# Altium schematic symbol library dongxf_Schlib.SchLib: 300 symbols (part 2 of 6)
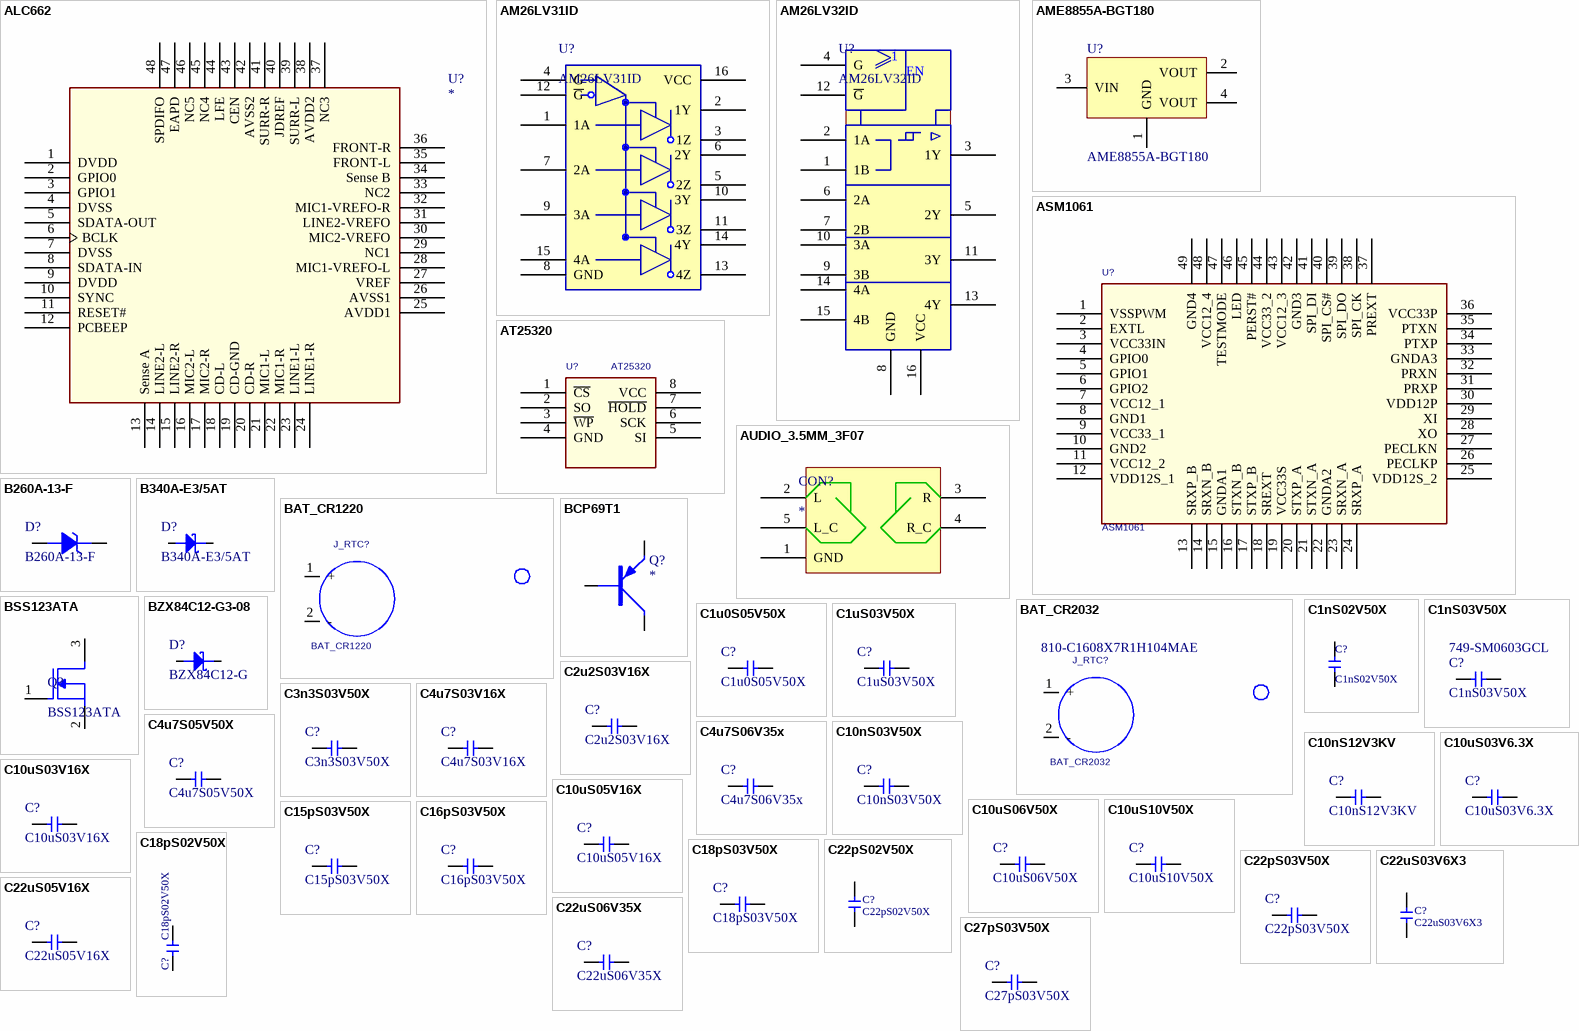
[diagram p15: symbols ALC662 to C27pS03V50X]

## C22uS03V6X3
designator C?
Multilayer Ceramic Capacitors MLCC - SMD/SMT 0603 22uF 6.3volts X5R 20%; Manufacturer: TDK; Manufacturer Part Number: C1608X5R0J226M; Voltage Rating: 6.3 V; Footprint: CAPC1608X90L_ZYN; Tolerance: 20 %; Value: 22uF; Supplier 1: Mouser; Supplier Part Number 1: 810-C1608X5R0J226M; Operating Temperature Range: - 55 C to + 85 C; Temperature Coefficient / Code: X5R; Package / Case: 0603 (1608 metric); Product: General Type MLCCs; RoHS - Mouser: Y; Capacitance: 22 uF; RoHS: RoHS Compliant; Termination Style: SMD/SMT; My_Descript: C22uS03V6X3
footprint C0603 (1608 metric)
pins: 1, 2

## C22uS05V16X
designator C?
Multilayer Ceramic Capacitors MLCC - SMD/SMT; Manufacturer: TDK; Manufacturer Part Number: C2012X6S1C226M125AC; Capacitance: 22 uF; Tolerance: 20 %; Type: Commercial Grade MLCC; Voltage Rating: 16 V; Case Height: 1.25 mm; Case Length: 2 mm; Class: Class 2; Dielectric: X6S; Dissipation Factor DF: 10; Product Status: New Product; Supplier 1: Mouser; RoHS: RoHS Compliant; Category: Multilayer Ceramic Capacitors MLCC - SMD/SMT; Stock 1: 0; Pricing 1: 1=1.03, 10=0.594, 100=0.363, 1000=0.335, 2000=0.208, 10000=0.204, 24000=0.201, 50000=0.193 (AUD); Operating Temperature Range: - 55 C to + 105 C; Package / Case: 0805 (2012 metric); Packaging: Reel; Product: General Type MLCCs; Termination Style: SMD/SMT; Voltage Rating DC: 16 V; Brand: TDK; Case Code - in: 0805; Case Code - mm: 2012; Case Width: 1.25 mm; Temperature Coefficient / Code: X6S; RoHS - Mouser: Y; Minimum Order Quantity: 1; Reeling: True; ComponentLink1URL: http://product.tdk.com/capacitor/mlcc/detailed_information.php?lang=en&ref=us&part_no=C2012X6S1C226M125AC; ComponentLink1Description: http://product.tdk.com/capacitor/mlcc/detailed_information.php?lang=en&ref=us&part_no=C2012X6S1C226M125AC; Supplier Part Number 1: 810-C2012X6S1C226MAC; My_Descript: C22uS05V16X
footprint C0805 (2012metric)
pins: 1, 2

## C22uS06V35X
designator C?
Multilayer Ceramic Capacitors MLCC - SMD/SMT 1206 22uF 35volts X5R 20%; Manufacturer: TDK; Manufacturer Part Number: C3216X5R1V226M160AC; Type: Multilayer Ceramic Chip Capacitor; Voltage Rating: 35 V; Case Length: 3.2 mm; Case Width: 1.6 mm; Supplier 1: Mouser; RoHS: RoHS Compliant; Category: Multilayer Ceramic Capacitors MLCC - SMD/SMT; Stock 1: 170687; Pricing 1: 1=1.66, 10=1.13, 100=0.668, 1000=0.609, 2000=0.431, 10000=0.387, 24000=0.379 (AUD); Capacitance: 22 uF; Operating Temperature Range: - 55 C to + 85 C; Package / Case: 1206 (3216 metric); Packaging: Reel; Product: General Type MLCCs; Series: C; Termination Style: SMD/SMT; Tolerance: 20 %; Brand: TDK; Case Code - in: 1206; Case Code - mm: 3216; Standard Pack Qty: 2000; Temperature Coefficient / Code: X5R; RoHS - Mouser: Y; Minimum Order Quantity: 1; Reeling: True; ComponentLink1URL: http://www.mouser.com/ds/2/400/C3216X5R1V226M160AC-265035.pdf; ComponentLink1Description: http://www.mouser.com/ds/2/400/C3216X5R1V226M160AC-265035.pdf; Supplier Part Number 1: 810-C3216X5R1V226M; My_Descript: C22uS06V35X
footprint C1206(3216 metric)
pins: 1, 2

## C27pS03V50X
designator C?
Multilayer Ceramic Capacitors MLCC - SMD/SMT 0603 27pF 50volts C0G 5%; Manufacturer: TDK; Manufacturer Part Number: C1608C0G1H270J080AA; Type: Multilayer Ceramic Chip Capacitor; Voltage Rating: 50 V; Case Height: 0.8 mm; Case Length: 1.6 mm; Dielectric: C0G (NP0); Temperature Coefficient / Code: +/- 30 PPM / C; Supplier 1: Mouser; RoHS: RoHS Compliant; Category: Multilayer Ceramic Capacitors MLCC - SMD/SMT; Stock 1: 24782; Pricing 1: 1=0.176, 10=0.022, 100=0.014, 1000=0.011, 4000=0.008, 8000=0.007, 48000=0.005, 100000=0.004 (AUD); Capacitance: 27 pF; Operating Temperature Range: - 55 C to + 125 C; Package / Case: 0603 (1608 metric); Packaging: Reel; Product: General Type MLCCs; Series: C; Termination Style: SMD/SMT; Tolerance: 5 %; Voltage Rating DC: 50 V; Brand: TDK; Case Code - in: 0603; Case Code - mm: 1608; Case Width: 0.8 mm; Maximum Operating Temperature: + 125 C; Minimum Operating Temperature: - 55 C; Product Category: Low & Medium Capacitance SMD Ceramic Chip Capacitors; Standard Pack Qty: 4000; RoHS - Mouser: Y; Minimum Order Quantity: 1; Reeling: True; ComponentLink1URL: http://www.mouser.com/ds/2/400/C1608C0G1H270J080AA-264573.pdf; ComponentLink1Description: http://www.mouser.com/ds/2/400/C1608C0G1H270J080AA-264573.pdf; Supplier Part Number 1: 810-C1608C0G1H270J; My_Descript: C27pS03V50X
footprint C0603 (1608 metric)
pins: 1, 2

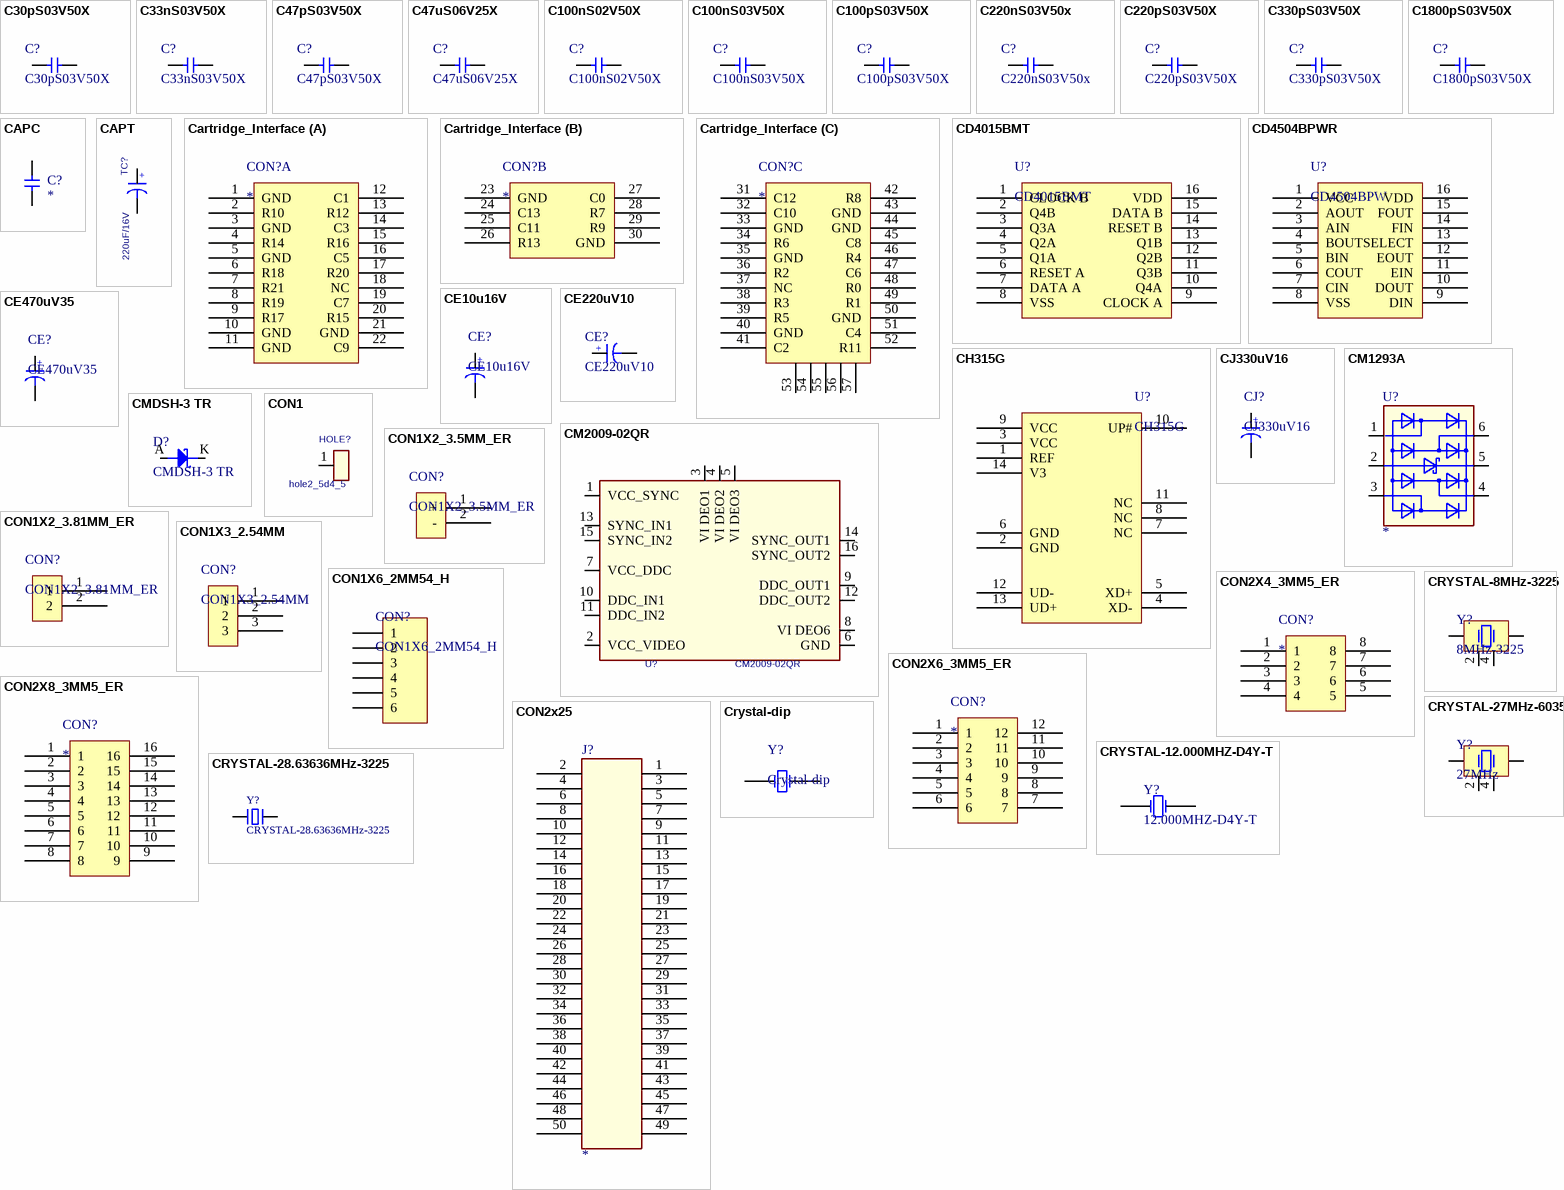
[diagram p3: symbols C30pS03V50X to Crystal-dip]

## C30pS03V50X
designator C?
Multilayer Ceramic Capacitors MLCC - SMD/SMT 0603 330pF 50volts C0G 5%; Manufacturer: AVX; Manufacturer Part Number: 06035A300J4T2A; Description: Multilayer Ceramic Capacitors MLCC - SMD/SMT 50volts 30pF 5% C0G; Capacitance: 30 pF; Type: Automotive MLCCs NP0 Dielectric; Voltage Rating DC: 50 V; Case Height: 0.9 mm; Case Length: 1.6 mm; Case Width: 0.81 mm; Dielectric: C0G (NP0); Temperature Coefficient / Code: +/- 30 PPM / C; My_Descript: C30pS03V50X; Supplier 1: Mouser; RoHS: RoHS Compliant; Category: Multilayer Ceramic Capacitors MLCC - SMD/SMT; Stock 1: 4859; Pricing 1: 1=0.149, 50=0.097, 100=0.086, 500=0.073, 1000=0.068, 2000=0.065, 4000=0.061, 8000=0.051, 24000=0.045 (AUD); Operating Temperature Range: - 55 C to + 125 C; Package / Case: 0603 (1608 metric); Packaging: Reel; Product: Automotive MLCCs; Termination Style: SMD/SMT; Tolerance: 5 %; Brand: AVX; Case Code - in: 0603; Case Code - mm: 1608; Maximum Operating Temperature: + 125 C; Minimum Operating Temperature: - 55 C; Product Category: Automotive Ceramic Chip Capacitors; Standard Pack Qty: 4000; RoHS - Mouser: Y; Minimum Order Quantity: 1; Reeling: True; ComponentLink1URL: http://www.avx.com/docs/Catalogs/ccog.pdf; ComponentLink1Description: http://www.avx.com/docs/Catalogs/ccog.pdf; Supplier Part Number 1: 581-06035A300J4T2A
footprint C0603 (1608 metric)
pins: 1, 2

## C33nS03V50X
designator C?
Multilayer Ceramic Capacitors MLCC - SMD/SMT 33nF 50V X7R 10%; Manufacturer: Yageo; Manufacturer Part Number: CC0603KRX7R9BB333; Capacitance: 0.033 uF; Type: Multilayer Ceramic Chip Capacitor; Case Length: 1.6 mm; Case Width: 0.8 mm; Supplier 1: Mouser; RoHS: RoHS Compliant By Exemption; Category: Multilayer Ceramic Capacitors MLCC - SMD/SMT; Stock 1: 40000; Pricing 1: 4000=0.014, 8000=0.008, 12000=0.007, 24000=0.005 (AUD); Operating Temperature Range: - 55 C to + 125 C; Package / Case: 0603 (1608 metric); Packaging: Reel; Product: General Type MLCCs; Termination Style: SMD/SMT; Tolerance: 10 %; Voltage Rating: 50 V; Brand: Yageo; Case Code - in: 0603; Case Code - mm: 1608; RoHS - Mouser: E; Minimum Order Quantity: 4000; Reeling: True; ComponentLink1URL: http://www.mouser.com/ds/2/447/UPY-GPHC_X7R_6.3V-to-50V_8-12304.pdf; ComponentLink1Description: http://www.mouser.com/ds/2/447/UPY-GPHC_X7R_6.3V-to-50V_8-12304.pdf; Supplier Part Number 1: 603-CC603KRX7R9BB333; My_Descript: C33nS03V50X
footprint C0603 (1608 metric)
pins: 1, 2

## C47pS03V50X
designator C?
Multilayer Ceramic Capacitors MLCC - SMD/SMT 47pF 50V NPO 5%; Manufacturer: Yageo; Manufacturer Part Number: CC0603JRNPO9BN470; Type: Multilayer Ceramic Chip Capacitor; Case Length: 1.6 mm; Case Width: 0.8 mm; Temperature Coefficient / Code: C0G (NP0); Supplier 1: Mouser; RoHS: RoHS Compliant By Exemption; Category: Multilayer Ceramic Capacitors MLCC - SMD/SMT; Stock 1: 52000; Pricing 1: 4000=0.014, 8000=0.012, 12000=0.011, 100000=0.008 (AUD); Capacitance: 47 pF; Operating Temperature Range: - 55 C to + 125 C; Package / Case: 0603 (1608 metric); Packaging: Reel; Product: General Type MLCCs; Termination Style: SMD/SMT; Tolerance: 5 %; Voltage Rating: 50 V; Brand: Yageo; Case Code - in: 0603; Case Code - mm: 1608; Standard Pack Qty: 4000; RoHS - Mouser: E; Minimum Order Quantity: 4000; Reeling: True; ComponentLink1URL: http://www.mouser.com/ds/2/447/UPY-GP_NP0_16V-to-50V_(8)-217813.pdf; ComponentLink1Description: http://www.mouser.com/ds/2/447/UPY-GP_NP0_16V-to-50V_(8)-217813.pdf; My_Descript: C47pS03V50X; Supplier Part Number 1: 603-CC603JRNPO9BN470
footprint C0603 (1608 metric)
pins: 1, 2

## C47uS06V25X
designator C?
Multilayer Ceramic Capacitors MLCC - SMD/SMT 1206 47uF 25volts X5R 20%; Manufacturer: TDK; Manufacturer Part Number: C3216X5R1E476M160AC; Type: Multilayer Ceramic Chip Capacitor; Voltage Rating: 25 V; Case Length: 3.2 mm; Case Width: 1.6 mm; Supplier 1: Mouser; RoHS: RoHS Compliant; Category: Multilayer Ceramic Capacitors MLCC - SMD/SMT; Stock 1: 360366; Pricing 1: 1=1.69, 10=1.22, 100=0.810, 500=0.726, 1000=0.641, 2000=0.471, 10000=0.431, 24000=0.423 (AUD); Capacitance: 47 uF; Operating Temperature Range: - 55 C to + 85 C; Package / Case: 1206 (3216 metric); Packaging: Reel; Product: General Type MLCCs; Series: C; Termination Style: SMD/SMT; Tolerance: 20 %; Brand: TDK; Case Code - in: 1206; Case Code - mm: 3216; Standard Pack Qty: 2000; Temperature Coefficient / Code: X5R; RoHS - Mouser: Y; Minimum Order Quantity: 1; Reeling: True; ComponentLink1URL: http://www.mouser.com/ds/2/400/C3216X5R1E476M160AC-265129.pdf; ComponentLink1Description: http://www.mouser.com/ds/2/400/C3216X5R1E476M160AC-265129.pdf; Supplier Part Number 1: 810-C3216X5R1E476M; My_Descript: C47uS06V25X
footprint C1206(3216 metric)
pins: 1, 2

## C100nS02V50X
designator C?
Multilayer Ceramic Capacitors MLCC - SMD/SMT 0402 0.1uF 50volts X7R 10%; Manufacturer: TDK; Manufacturer Part Number: C1005X7R1H104K050BB; Type: Multilayer Ceramic Chip Capacitor; Voltage Rating: 50 V; Case Height: 0.5 mm; Case Length: 1 mm; Temperature Coefficient / Code: +/- 15 %; Supplier 1: Mouser; RoHS: RoHS Compliant; Category: Multilayer Ceramic Capacitors MLCC - SMD/SMT; Stock 1: 3473049; Pricing 1: 1=0.189, 10=0.078, 100=0.046, 1000=0.038, 2500=0.027, 10000=0.026, 20000=0.024, 50000=0.022, 100000=0.019 (AUD); Capacitance: 0.1 uF; Operating Temperature Range: - 55 C to + 125 C; Package / Case: 0402 (1005 metric); Packaging: Reel; Product: General Type MLCCs; Termination Style: SMD/SMT; Tolerance: 10 %; Voltage Rating DC: 50 V; Brand: TDK; Case Code - in: 0402; Case Code - mm: 1005; Case Width: 0.5 mm; Dielectric: X7R; Maximum Operating Temperature: + 125 C; Minimum Operating Temperature: - 55 C; Standard Pack Qty: 10000; RoHS - Mouser: Y; Minimum Order Quantity: 1; Reeling: True; ComponentLink1URL: http://www.mouser.com/ds/2/400/C1005X7R1H104K050BB-264446.pdf; ComponentLink1Description: http://www.mouser.com/ds/2/400/C1005X7R1H104K050BB-264446.pdf; Supplier Part Number 1: 810-C1005X7R1H104K; My_Descript: C100nS02V50X
footprint C0402 (1005 metric)
pins: 1, 2

## C100nS03V50X
designator C?
Multilayer Ceramic Capacitors MLCC - SMD/SMT; Manufacturer: TDK; Manufacturer Part Number: C1608X7R1H104M080AE; Capacitance: 0.1 uF; Tolerance: 20 %; Type: Soft Termination MLCC; Voltage Rating: 50 V; Case Height: 0.8 mm; Case Length: 1.6 mm; Class: Class 2; Dielectric: X7R; Dissipation Factor DF: 3; Product Status: New Product; Supplier 1: Mouser; RoHS: RoHS Compliant; Category: Multilayer Ceramic Capacitors MLCC - SMD/SMT; Stock 1: 0; Pricing 1: 1=0.311, 10=0.135, 100=0.081, 1000=0.069, 4000=0.051, 8000=0.049, 24000=0.046, 48000=0.043, 100000=0.036 (AUD); Operating Temperature Range: - 55 C to + 125 C; Package / Case: 0603 (1608 metric); Packaging: Reel; Product: General Type MLCCs; Termination Style: SMD/SMT; Voltage Rating DC: 50 V; Brand: TDK; Case Code - in: 0603; Case Code - mm: 1608; Case Width: 0.8 mm; Temperature Coefficient / Code: X7R; RoHS - Mouser: Y; Minimum Order Quantity: 1; Reeling: True; ComponentLink1URL: http://product.tdk.com/capacitor/mlcc/detailed_information.php?lang=en&ref=us&part_no=C1608X7R1H104M080AE; ComponentLink1Description: http://product.tdk.com/capacitor/mlcc/detailed_information.php?lang=en&ref=us&part_no=C1608X7R1H104M080AE; Supplier Part Number 1: 810-C1608X7R1H104MAE; My_Descript: C100nS03V50X
footprint C0603 (1608 metric)
pins: 1, 2

## C100pS03V50X
designator C?
Multilayer Ceramic Capacitors MLCC - SMD/SMT 0603 100pF 50volts C0G 5%; Manufacturer: TDK; Manufacturer Part Number: C1608C0G1H101J080AA; Type: Multilayer Ceramic Chip Capacitor; Voltage Rating: 50 V; Case Height: 0.8 mm; Case Length: 1.6 mm; Temperature Coefficient / Code: C0G (NP0); Supplier 1: Mouser; RoHS: RoHS Compliant; Category: Multilayer Ceramic Capacitors MLCC - SMD/SMT; Stock 1: 134091; Pricing 1: 1=0.149, 10=0.019, 100=0.011, 1000=0.009, 4000=0.008, 8000=0.007, 24000=0.005, 100000=0.004 (AUD); Capacitance: 100 pF; Operating Temperature Range: - 55 C to + 125 C; Package / Case: 0603 (1608 metric); Packaging: Reel; Product: General Type MLCCs; Series: C; Termination Style: SMD/SMT; Tolerance: 5 %; Brand: TDK; Case Code - in: 0603; Case Code - mm: 1608; Case Width: 0.8 mm; Product Category: Low & Medium Capacitance SMD Ceramic Chip Capacitors; Standard Pack Qty: 4000; RoHS - Mouser: Y; Minimum Order Quantity: 1; Reeling: True; ComponentLink1URL: http://www.mouser.com/ds/2/400/C1608C0G1H101J080AA-264505.pdf; ComponentLink1Description: http://www.mouser.com/ds/2/400/C1608C0G1H101J080AA-264505.pdf; Supplier Part Number 1: 810-C1608C0G1H101J; My_Descript: C100pS03V50X
footprint C0603 (1608 metric)
pins: 1, 2

## C220nS03V50x
designator C?
Multilayer Ceramic Capacitors MLCC - SMD/SMT 220000pF 10% 50Volts; Manufacturer: TDK; Manufacturer Part Number: C1608X7R1H224K080AB; Capacitance: 0.22 uF; Type: Multilayer Ceramic Chip Capacitor; Voltage Rating: 50 V; Case Height: 0.8 mm; Case Length: 1.6 mm; Temperature Coefficient / Code: X7R; Voltage Rating DC: 16 V; Class: 2; Dielectric: X7S; Product Status: New Product; Supplier 1: Mouser; RoHS: RoHS Compliant; Category: Multilayer Ceramic Capacitors MLCC - SMD/SMT; Stock 1: 73278; Pricing 1: 1=0.230, 10=0.101, 100=0.061, 1000=0.051, 4000=0.039, 8000=0.036, 24000=0.035, 48000=0.032, 100000=0.027 (AUD); Operating Temperature Range: - 55 C to + 125 C; Package / Case: 0603 (1608 metric); Packaging: Reel; Product: General Type MLCCs; Termination Style: SMD/SMT; Tolerance: 10 %; Brand: TDK; Case Code - in: 0603; Case Code - mm: 1608; Case Width: 0.8 mm; Standard Pack Qty: 4000; RoHS - Mouser: Y; Minimum Order Quantity: 1; Reeling: True; ComponentLink1URL: http://www.mouser.com/ds/2/400/C1608X7R1H224K080AB-264841.pdf; ComponentLink1Description: http://www.mouser.com/ds/2/400/C1608X7R1H224K080AB-264841.pdf; Supplier Part Number 1: 810-C1608X7R1H224K; My_Descript: C220nS03V50x; Supplier 2: Mouser; Stock 2: 0; Pricing 2: 1=0.648, 10=0.378, 100=0.231, 1000=0.213, 2000=0.132, 10000=0.130, 24000=0.128, 50000=0.123, 100000=0.119 (AUD); Series: CGA; ComponentLink2URL: http://product.tdk.com/capacitor/mlcc/en/documents/mlcc_automotive_general_en.pdf; ComponentLink2Description: http://product.tdk.com/capacitor/mlcc/en/documents/mlcc_automotive_general_en.pdf; Supplier Part Number 2: 810-CGA4J1X7S1C106KC
footprint C0603 (1608 metric)
pins: 1, 2

## C220pS03V50X
designator C?
Multilayer Ceramic Capacitors MLCC - SMD/SMT 220pF 50V X7R 5%; Manufacturer: Yageo; Manufacturer Part Number: CC0603JRX7R9BB221; Type: Multilayer Ceramic Chip Capacitor; Case Length: 1.6 mm; Case Width: 0.8 mm; Supplier 1: Mouser; RoHS: RoHS Compliant By Exemption; Category: Multilayer Ceramic Capacitors MLCC - SMD/SMT; Stock 1: 0; Pricing 1: 4000=0.011, 8000=0.009, 24000=0.008, 100000=0.007 (AUD); Capacitance: 220 pF; Operating Temperature Range: - 55 C to + 125 C; Package / Case: 0603 (1608 metric); Packaging: Reel; Product: General Type MLCCs; Termination Style: SMD/SMT; Tolerance: 5 %; Voltage Rating: 50 V; Brand: Yageo; Case Code - in: 0603; Case Code - mm: 1608; RoHS - Mouser: E; Minimum Order Quantity: 4000; Reeling: True; ComponentLink1URL: http://www.mouser.com/ds/2/447/UPY-GPHC_X7R_6.3V-to-50V_9-270870.pdf; ComponentLink1Description: http://www.mouser.com/ds/2/447/UPY-GPHC_X7R_6.3V-to-50V_9-270870.pdf; Supplier Part Number 1: 603-CC603JRX7R9BB221; My_Descript: C220pS03V50X
footprint C0603 (1608 metric)
pins: 1, 2

## C330pS03V50X
designator C?
Multilayer Ceramic Capacitors MLCC - SMD/SMT 0603 330pF 50volts C0G 5%; Manufacturer: TDK; Manufacturer Part Number: C1608C0G1H331J080AA; Type: Multilayer Ceramic Chip Capacitor; Voltage Rating: 50 V; Case Height: 0.8 mm; Case Length: 1.6 mm; Temperature Coefficient / Code: C0G (NP0); Supplier 1: Mouser; RoHS: RoHS Compliant; Category: Multilayer Ceramic Capacitors MLCC - SMD/SMT; Stock 1: 27791; Pricing 1: 1=0.351, 10=0.045, 100=0.026, 1000=0.020, 4000=0.014, 48000=0.012, 100000=0.009 (AUD); Capacitance: 330 pF; Operating Temperature Range: - 55 C to + 125 C; Package / Case: 0603 (1608 metric); Packaging: Reel; Product: General Type MLCCs; Series: C; Termination Style: SMD/SMT; Tolerance: 5 %; Brand: TDK; Case Code - in: 0603; Case Code - mm: 1608; Case Width: 0.8 mm; Product Category: Low & Medium Capacitance SMD Ceramic Chip Capacitors; Standard Pack Qty: 4000; RoHS - Mouser: Y; Minimum Order Quantity: 1; Reeling: True; ComponentLink1URL: http://www.mouser.com/ds/2/400/C1608C0G1H331J080AA-264623.pdf; ComponentLink1Description: http://www.mouser.com/ds/2/400/C1608C0G1H331J080AA-264623.pdf; My_Descript: C330pS03V50X; Supplier Part Number 1: 810-C1608C0G1H331J
footprint C0603 (1608 metric)
pins: 1, 2

## C1800pS03V50X
designator C?
Multilayer Ceramic Capacitors MLCC - SMD/SMT 0603 1800pF 50volts C0G 5%; Manufacturer: TDK; Manufacturer Part Number: C1608C0G1H182J080AA; Type: Multilayer Ceramic Chip Capacitor; Voltage Rating: 50 V; Case Height: 0.8 mm; Case Length: 1.6 mm; Temperature Coefficient / Code: C0G (NP0); Supplier 1: Mouser; RoHS: RoHS Compliant; Category: Multilayer Ceramic Capacitors MLCC - SMD/SMT; Stock 1: 4974; Pricing 1: 1=0.230, 10=0.101, 100=0.061, 1000=0.051, 4000=0.039, 8000=0.036, 24000=0.035, 48000=0.032, 100000=0.027 (AUD); Capacitance: 1800 pF; Operating Temperature Range: - 55 C to + 125 C; Package / Case: 0603 (1608 metric); Packaging: Reel; Product: General Type MLCCs; Series: C; Termination Style: SMD/SMT; Tolerance: 5 %; Brand: TDK; Case Code - in: 0603; Case Code - mm: 1608; Case Width: 0.8 mm; Product Category: Low & Medium Capacitance SMD Ceramic Chip Capacitors; Standard Pack Qty: 4000; RoHS - Mouser: Y; Minimum Order Quantity: 1; Reeling: True; ComponentLink1URL: http://www.mouser.com/ds/2/400/C1608C0G1H182J080AA-264528.pdf; ComponentLink1Description: http://www.mouser.com/ds/2/400/C1608C0G1H182J080AA-264528.pdf; Supplier Part Number 1: 810-C1608C0G1H182J; My_Descript: C1800pS03V50X
footprint C0603 (1608 metric)
pins: 1, 2

## CAPC
designator C?
footprint CAPC1608X90N
pins: 1, 2

## CAPT
designator TC?, comment 220uF/16V
REUSE_ANNOTATE: TRUE
footprint cap7343_tg
pins: 1, 2
text: +

## Cartridge_Interface
designator CON?
My_Descript: Cartridge_Interface
footprint Cartridge_Interface
part A pins: 1 GND, 2 R10, 3 GND, 4 R14, 5 GND, 6 R18, 7 R21, 8 R19, 9 R17, 10 GND, 11 GND, 12 C1, 13 R12, 14 C3, 15 R16, 16 C5, 17 R20, 18 NC, 19 C7, 20 R15, 21 GND, 22 C9
part B pins: 23 GND, 24 C13, 25 C11, 26 R13, 27 C0, 28 R7, 29 R9, 30 GND
part C pins: 31 C12, 32 C10, 33 GND, 34 R6, 35 GND, 36 R2, 37 NC, 38 R3, 39 R5, 40 GND, 41 C2, 42 R8, 43 GND, 44 GND, 45 C8, 46 R4, 47 C6, 48 R0, 49 R1, 50 GND, 51 C4, 52 R11, 53, 54, 55, 56, 57

## CD4015BMT
designator U?
Counter Shift Registers CMOS Dual 4-Stage Static Shift Reg; Manufacturer: Texas Instruments; Number of Circuits: 2; Counting Sequence: Serial to Parallel; Logic Family: CD4000; Number of Input Lines: 1; Number of Output Lines: 4; Operating Supply Voltage: 3.3 V, 5 V, 9 V, 12 V, 15 V; Propagation Delay Time: 320 ns, 160 ns, 120 ns; Supply Voltage - Max: 18 V; Supplier 1: Mouser; Manufacturer Part Number: CD4015BMT; RoHS: RoHS Compliant; Category: Counter Shift Registers; Stock 1: 0; Pricing 1: 250=0.732, 470=0.732, 1000=0.510, 5000=0.452, 10000=0.436, 25000=0.425 (AUD); Function: Shift Register; Package / Case: SOIC-16; Packaging: Reel; Series: CD4015B; Brand: Texas Instruments; Logic Type: CMOS; Mounting Style: SMD/SMT; Maximum Operating Temperature: + 125 C; Minimum Operating Temperature: - 55 C; Product Category: Logic - Flip-Flops, Latches, and Registers; Standard Pack Qty: 250; RoHS - Mouser: Y; Minimum Order Quantity: 470; Reeling: True; ComponentLink1URL: http://www.mouser.com/ds/2/405/cd4015b-82081.pdf; ComponentLink1Description: http://www.mouser.com/ds/2/405/cd4015b-82081.pdf; Supplier Part Number 1: 595-CD4015BMT; My_Descript: CD4015BMT
footprint SOIC16
pins: 1 CLOCK B, 2 Q4B, 3 Q3A, 4 Q2A, 5 Q1A, 6 RESET A, 7 DATA A, 8 VSS, 9 CLOCK A, 10 Q4A, 11 Q3B, 12 Q2B, 13 Q1B, 14 RESET B, 15 DATA B, 16 VDD

## CD4504BPWR
designator U?, comment CD4504BPW
Translation - Voltage Levels Hex Voltage; Manufacturer: Texas Instruments; Manufacturer Part Number: CD4504BPWR; Propagation Delay Time: 550 ns; Supply Voltage - Max: 18 V; Supply Voltage - Min: 5 V; Supplier 1: Mouser; RoHS: RoHS Compliant; Category: Translation - Voltage Levels; Stock 1: 12366; Pricing 1: 1=0.648, 10=0.497, 100=0.262, 1000=0.234, 2000=0.200, 10000=0.186, 24000=0.178 (AUD); Package / Case: TSSOP-16; Packaging: Reel; Series: CD4504B; Type: CMOS/TTL to CMOS; Brand: Texas Instruments; Mounting Style: SMD/SMT; Maximum Operating Temperature: + 125 C; Minimum Operating Temperature: - 55 C; Product Category: Logic - Voltage Level Translation; Standard Pack Qty: 2000; RoHS - Mouser: Y; Minimum Order Quantity: 1; Reeling: True; ComponentLink1URL: http://www.mouser.com/ds/2/405/schs069d-127284.pdf; ComponentLink1Description: http://www.mouser.com/ds/2/405/schs069d-127284.pdf; Supplier Part Number 1: 595-CD4504BPWR; My_Descript: CD4504BPW
footprint TSSOP16
pins: 1 VCC, 2 AOUT, 3 AIN, 4 BOUT, 5 BIN, 6 COUT, 7 CIN, 8 VSS, 9 DIN, 10 DOUT, 11 EIN, 12 EOUT, 13 SELECT, 14 FIN, 15 FOUT, 16 VDD

## CE10u16V
designator CE?
Aluminum Electrolytic Capacitors - SMD 16volts 10uF Snap-In Audio; Manufacturer: Nichicon; Manufacturer Part Number: UUQ1C100MCL1GB; Tolerance: 20 %; Voltage Rating DC: 16 V; Leakage Current: 4 uA; Case Diameter: 4 mm; Case Height: 4.3 mm; Case Length: 5.4 mm; Dissipation Factor DF: 0.22; Load Life: 1000 h; Ripple Current: 18 mA; Supplier 1: Mouser; RoHS: RoHS Compliant; Category: Aluminum Electrolytic Capacitors - SMD; Stock 1: 0; Pricing 1: 1=0.743, 10=0.590, 100=0.161, 1000=0.135, 2000=0.122, 10000=0.108 (AUD); Capacitance: 10 uF; Packaging: Reel; Product: Aluminum Electrolytic Capacitors; Series: UQ; Termination Style: SMD/SMT; Type: SMD Aluminum Electrolytic Capacitors; Brand: Nichicon; Case Width: 4.3 mm; Maximum Operating Temperature: + 105 C; Minimum Operating Temperature: - 40 C; Product Category: SMD Aluminum Electrolytic Capacitors; Standard Pack Qty: 2000; RoHS - Mouser: Y; Minimum Order Quantity: 1; Reeling: True; ComponentLink1URL: http://www.mouser.com/ds/2/293/e-uq-10866.pdf; ComponentLink1Description: http://www.mouser.com/ds/2/293/e-uq-10866.pdf; Supplier Part Number 1: 647-UUQ1C100MCL1GB; My_Descript: CE10u16V
footprint CE_5x4x5
pins: 1, 2
text: +

## CE220uV10
designator CE?
Aluminum Electrolytic Capacitors - Leaded 10volts 220uF 5x11 20% 2LS; Manufacturer: Nichicon; Manufacturer Part Number: UVK1A221MDD; Voltage Rating DC: 10 V; Leakage Current: 66 uA; Case Diameter: 5 mm; Case Length: 11 mm; Ripple Current: 220 mA; Supplier 1: Mouser; RoHS: RoHS Compliant; Category: Aluminum Electrolytic Capacitors - Leaded; Stock 1: 913; Pricing 1: 1=0.324, 10=0.224, 100=0.101, 1000=0.090, 2500=0.088, 10000=0.076, 25000=0.065, 50000=0.055, 100000=0.049 (AUD); Capacitance: 220 uF; Dimensions: 5 mm Dia. x 11 mm L; Packaging: Bulk; Product: General Purpose Electrolytic Capacitors; Series: VK; Termination Style: Radial; Tolerance: 20 %; Brand: Nichicon; Lead Spacing: 2 mm; Maximum Operating Temperature: + 85 C; Product Category: Radial Aluminum Electrolytic Capacitors; Standard Pack Qty: 200; RoHS - Mouser: Y; Minimum Order Quantity: 1; Reeling: False; ComponentLink1URL: http://www.mouser.com/ds/2/293/e-vk-16658.pdf; ComponentLink1Description: http://www.mouser.com/ds/2/293/e-vk-16658.pdf; Supplier Part Number 1: 647-UVK1A221MDD; My_Descript: CE220uV10
footprint CE2.0mm
pins: 1, 2
text: +

## CE470uV35
designator CE?
Aluminum Electrolytic Capacitors - SMD 470UF 35V FK SMD; Manufacturer: Panasonic; Manufacturer Part Number: EEE-TKV471UAQ; Tolerance: 20 %; ESR: 0.12 Ohms; Case Diameter: 12.5 mm; Case Height: 15 mm; Case Length: 13.5 mm; Dissipation Factor DF: 0.16; Load Life: 3000 h; Ripple Current: 800 mA; My_Descript: CE470uV35; Supplier 1: Mouser; RoHS: RoHS Compliant; Category: Aluminum Electrolytic Capacitors - SMD; Stock 1: 402; Pricing 1: 1=3.23, 10=2.32, 100=1.46, 200=1.46, 400=1.10, 1000=0.969, 2400=0.872, 10000=0.840 (AUD); Capacitance: 470 uF; Packaging: Reel; Product: High Temp Electrolytic Capacitors; Series: TK; Termination Style: SMD/SMT; Type: Aluminum Capacitors SMD, High Temperature; Voltage Rating DC: 35 V; Brand: Panasonic; Maximum Operating Temperature: + 125 C; Minimum Operating Temperature: - 40 C; Standard Pack Qty: 200; RoHS - Mouser: Y; Minimum Order Quantity: 1; Reeling: True; ComponentLink1URL: http://www.mouser.com/ds/2/315/ABA0000CE110-48633.pdf; ComponentLink1Description: http://www.mouser.com/ds/2/315/ABA0000CE110-48633.pdf; Supplier Part Number 1: 667-EEE-TKV471UAQ
footprint CE_12.5x12.5x13.5
pins: 1, 2
text: +

## CH315G
designator U?
footprint SOIC14
pins: 1 REF, 2 GND, 3 VCC, 4 XD-, 5 XD+, 6 GND, 7 NC, 8 NC, 9 VCC, 10 UP#, 11 NC, 12 UD-, 13 UD+, 14 V3

## CJ330uV16
designator CJ?
Aluminum Organic Polymer Capacitors 330uF 16 Volts 20% SMD Low ESR; Manufacturer: Nichicon; Manufacturer Part Number: PCJ1C331MCL1GS; Voltage Rating DC: 16 V; ESR: 16 mOhms; Leakage Current: 1056 uA; Case Diameter: 10 mm; Dissipation Factor DF: 0.12; Load Life: 2000 h; Ripple Current: 4100 mA; Supplier 1: Mouser; RoHS: RoHS Compliant; Category: Aluminum Organic Polymer Capacitors; Stock 1: 1560; Pricing 1: 1=3.23, 10=2.34, 100=1.10, 500=1.10, 1000=0.969, 2500=0.872, 10000=0.824 (AUD); Capacitance: 330 uF; Packaging: Reel; Product: Organic Polymer Aluminum - SMD Capacitors; Series: CJ; Termination Style: SMD/SMT; Tolerance: 20 %; Brand: Nichicon; Case Length: 10 mm; Maximum Operating Temperature: + 105 C; Minimum Operating Temperature: - 55 C; Product Category: Polymer Aluminum SMD Capacitors; Product Type: Can; Standard Pack Qty: 500; RoHS - Mouser: Y; Minimum Order Quantity: 1; Reeling: True; ComponentLink1URL: http://products.nichicon.co.jp/en/pdf/XJA042/e-con_cj.pdf; ComponentLink1Description: http://products.nichicon.co.jp/en/pdf/XJA042/e-con_cj.pdf; My_Descript: CJ330uV16; Supplier Part Number 1: 647-PCJ1C331MCL1GS
pins: 1, 2
text: +

## CM1293A
designator U?
footprint sot23_6_tg
pins: 1 CH1, 2 VN, 3 CH2, 4 CH3, 5 VP, 6 CH4

## CM2009-02QR
designator U?
REUSE_ANNOTATE: TRUE
footprint ssop16p_0_65d_5_6w_tg
footprint ssop16p_0_65d_5_6w_tg
pins: 1 VCC_SYNC, 2 VCC_VIDEO, 3 VI DEO1, 4 VI DEO2, 5 VI DEO3, 6 GND, 7 VCC_DDC, 8 VI DEO6, 9 DDC_OUT1, 10 DDC_IN1, 11 DDC_IN2, 12 DDC_OUT2, 13 SYNC_IN1, 14 SYNC_OUT1, 15 SYNC_IN2, 16 SYNC_OUT2

## CMDSH-3 TR
designator D?
Schottky Diodes & Rectifiers 30V Schottky; Manufacturer: Central Semiconductor; Configuration: Single; Forward Continuous Current: 0.1 A; Max Surge Current: 0.75 A; Forward Voltage Drop: 0.8 V; Maximum Reverse Leakage Current: 1 uA at 25 V; Supplier 1: Mouser; Manufacturer Part Number: CMDSH-3 TR; RoHS: RoHS Compliant; Category: Schottky Diodes & Rectifiers; Stock 1: 23570; Pricing 1: 1=0.837, 10=0.733, 100=0.413, 1000=0.378, 3000=0.319, 9000=0.308, 24000=0.296, 45000=0.290 (AUD); Operating Temperature Range: - 65 C to + 150 C; Package / Case: SOD-323; Packaging: Reel; Product: Schottky Diodes; Series: CMDSH-3; Brand: Central Semiconductor; Mounting Style: SMD/SMT; Peak Reverse Voltage: 30 V; Product Category: Diodes - Schottky; Standard Pack Qty: 3000; RoHS - Mouser: Y; Minimum Order Quantity: 1; Reeling: True; ComponentLink1URL: http://www.mouser.com/ds/2/68/CMDSH-3-39175.pdf; ComponentLink1Description: http://www.mouser.com/ds/2/68/CMDSH-3-39175.pdf; Supplier Part Number 1: 610-CMDSH-3; My_Descript: CMDSH-3 TR
footprint SOD-323
pins: A, K

## CON1
designator HOLE?, comment hole2_5d4_5
footprint hole3_2x6_0nonp_tg
footprint hole2_5d4_5_tg
pins: 1

## CON1X2_3.5MM_ER
designator CON?
My_Descript: CON1X2_3.5MM_ER; ComponentLink1URL: http://item.taobao.com/item.htm?spm=a1z10.5.w4002-1113080723.12.1GwAiz&id=25969252238
footprint CON1X2_3.5MM_ER
pins: 1 +, 2 -

## CON1X2_3.81MM_ER
designator CON?
My_Descript: CON1X2_3.81MM_ER; ComponentLink1URL: http://item.taobao.com/item.htm?spm=a1z10.5.w4002-1113080723.12.1GwAiz&id=25969252238
footprint CON1X2_3.81MM_ER
pins: 1, 2

## CON1X3_2.54MM
designator CON?
My_Descript: CON1X3_2.54MM
footprint CON2.54_1X3
pins: 1, 2, 3

## CON1X6_2MM54_H
designator CON?
My_Descript: CON1X6_2MM54_H
footprint CON1X6_2MM54_H
pins: 1, 2, 3, 4, 5, 6

## CON2X4_3MM5_ER
designator CON?
My_Descript: CON2X4_3MM5_ER_1
footprint CON2X4_3MM5_ER
pins: 1, 2, 3, 4, 5, 6, 7, 8

## CON2X6_3MM5_ER
designator CON?
My_Descript: CON2X8_3MM5_ER
footprint CON2X6_3MM5_ER
pins: 1, 2, 3, 4, 5, 6, 7, 8, 9, 10, 11, 12

## CON2X8_3MM5_ER
designator CON?
My_Descript: CON2X8_3MM5_ER
footprint CON2X8_3MM5_ER
pins: 1, 2, 3, 4, 5, 6, 7, 8, 9, 10, 11, 12, 13, 14, 15, 16

## CON2x25
designator J?
footprint som6640_slotb_tg
pins: 1, 2, 3, 4, 5, 6, 7, 8, 9, 10, 11, 12, 13, 14, 15, 16, 17, 18, 19, 20, 21, 22, 23, 24, 25, 26, 27, 28, 29, 30, 31, 32, 33, 34, 35, 36, 37, 38, 39, 40, 41, 42, 43, 44, 45, 46, 47, 48, 49, 50

## CRYSTAL-8MHz-3225
designator Y?, comment 8MHz-3225
Manufacturer: ABRACON; Manufacturer Part Number: ASE-8.000MHZ-L-C-T; Frequency: 8 MHz; Frequency Stability: 50 PPM; Load Capacitance: 15 pF; Supply Voltage: 3.3 V; Output Format: CMOS; Supplier 1: Mouser; RoHS: RoHS Compliant; Category: Standard Clock Oscillators; Stock 1: 978; Pricing 1: 1=4.05, 10=3.51, 50=3.00, 100=2.43, 200=2.08, 500=2.01, 1000=1.51, 2000=1.49, 5000=1.40 (AUD); Dimensions: 2.5 mm W x 3.2 mm L; Package / Case: 3.2 mm x 2.5 mm; Packaging: Reel; Product: XO; Series: ASE; Termination Style: SMD/SMT; Brand: ABRACON; Mounting Style: SMD/SMT; Maximum Operating Temperature: + 85 C; Minimum Operating Temperature: - 40 C; Product Category: SMD Clock Oscillators; RoHS - Mouser: Y; Minimum Order Quantity: 1; Reeling: True; ComponentLink1URL: http://www.abracon.com/Oscillators/ASEseries.pdf; ComponentLink1Description: http://www.abracon.com/Oscillators/ASEseries.pdf; Supplier Part Number 1: 815-ASE-8.000MLCT; My_Descript: 8MHz-3225
footprint X_3225 (X_5032)
pins: 1, 2, 3, 4

## CRYSTAL-12.000MHZ-D4Y-T
designator Y?, comment 12.000MHZ-D4Y-T
Crystals 12.0MHz 30ppm 18pF -40C+85C; Manufacturer: ABRACON; Manufacturer Part Number: ABLS2-12.000MHZ-D4Y-T; Frequency: 12 MHz; ESR: 50 Ohms; Supplier 1: Mouser; RoHS: RoHS Compliant; Category: Crystals; Stock 1: 18094; Pricing 1: 1=0.729, 10=0.603, 50=0.541, 100=0.482, 500=0.432, 1000=0.321, 5000=0.306, 10000=0.259 (AUD); Dimensions: 4.8 mm W x 11.5 mm L x 3.3 mm H; Frequency Stability: 30 PPM; Load Capacitance: 18 pF; Operating Temperature Range: - 40 C to + 85 C; Package / Case: HC-49/US; Packaging: Reel; Series: ABLS2; Termination Style: SMD/SMT; Tolerance: 30 PPM; Type: Microprocessor Crystals; Brand: ABRACON; Mounting Style: SMD/SMT; Product Category: HC49 US SMD Metal Can MHz Range Crystals; Standard Pack Qty: 1000; RoHS - Mouser: Y; Minimum Order Quantity: 1; Reeling: True; ComponentLink1URL: http://www.mouser.com/ds/2/3/ABLS2-220635.pdf; ComponentLink1Description: http://www.mouser.com/ds/2/3/ABLS2-220635.pdf; Supplier Part Number 1: 815-ABLS2-12-D4Y-T; My_Descript: 12.000MHZ-D4Y-T
footprint CRYSTAL-DIP
pins: 1 OSC1, 2 OSC2

## CRYSTAL-27MHz-6035
designator Y?, comment 27MHz
Crystals 27.0 MHZ; Manufacturer: CTS Electronic Components; Manufacturer Part Number: 406C35B27M00000; Frequency Stability: 50 PPM; Load Capacitance: 13 pF; Supplier 1: Mouser; RoHS: RoHS Compliant; Category: Crystals; Stock 1: 890; Pricing 1: 1=1.84, 10=1.71, 100=1.47, 500=1.43, 1000=1.15, 2000=1.09, 4000=1.05, 8000=1.01 (AUD); Dimensions: 3.5 mm W x 6 mm L x 1.2 mm H; Frequency: 27 MHz; Operating Temperature Range: - 20 C to + 70 C; Package / Case: 6 mm x 3.5 mm; Packaging: Reel; Series: 406; Termination Style: SMD/SMT; Type: Surface Mount Quartz Crystals; Brand: CTS Electronic Components; Mounting Style: SMD/SMT; Product Category: Crystals, SMD; Standard Pack Qty: 1000; RoHS - Mouser: Y; Minimum Order Quantity: 1; Reeling: True; ComponentLink1URL: http://www.mouser.com/ds/2/96/008-0260-0-318470.pdf; ComponentLink1Description: http://www.mouser.com/ds/2/96/008-0260-0-318470.pdf; Supplier Part Number 1: 774-406C35B27M0; My_Descript: 27MHz
footprint X_6035 (X_5032)
pins: 1, 2, 3, 4

## CRYSTAL-28.63636MHz-3225
designator Y?
Crystals 28.63636MHz 18pF 30ppm -40C +85C; Manufacturer: ABRACON; Manufacturer Part Number: ABM8G-28.63636MHZ-18-D2Y-T; ESR: 50 Ohms; Tolerance: 20 PPM; Taobao Price: 1.00; Value: 28.63636MHz; Supplier 1: Mouser; Supplier Part Number 1: 815-ABM8G-28.6-18D2Y; Packaging: Reel; Dimensions: 2.5 mm W x 3.2 mm L x 1 mm H; Termination Style: SMD/SMT; Frequency: 28.63636 MHz; RoHS - Mouser: Y; Reeling: True; Category: Crystals; Load Capacitance: 18 pF; Package / Case: 3.2 mm x 2.5 mm; Frequency Stability: 30 PPM; Product Category: SMD Crystals; Series: ABM8G; Operating Temperature Range: - 40 C to + 85 C; RoHS: RoHS Compliant; Minimum Order Quantity: 1; Taobao Link: http://item.taobao.com/item.htm?spm=a1z10.3.w1017-1027289163.12.ZAkYEj&id=18823264180&; My_Descript: CRYSTAL-28.63636MHz-3225
footprint OSCCC250X320X100AN
pins: 1, 3

## Crystal-dip
designator Y?
pins: 1 OSC1, 2 OSC2

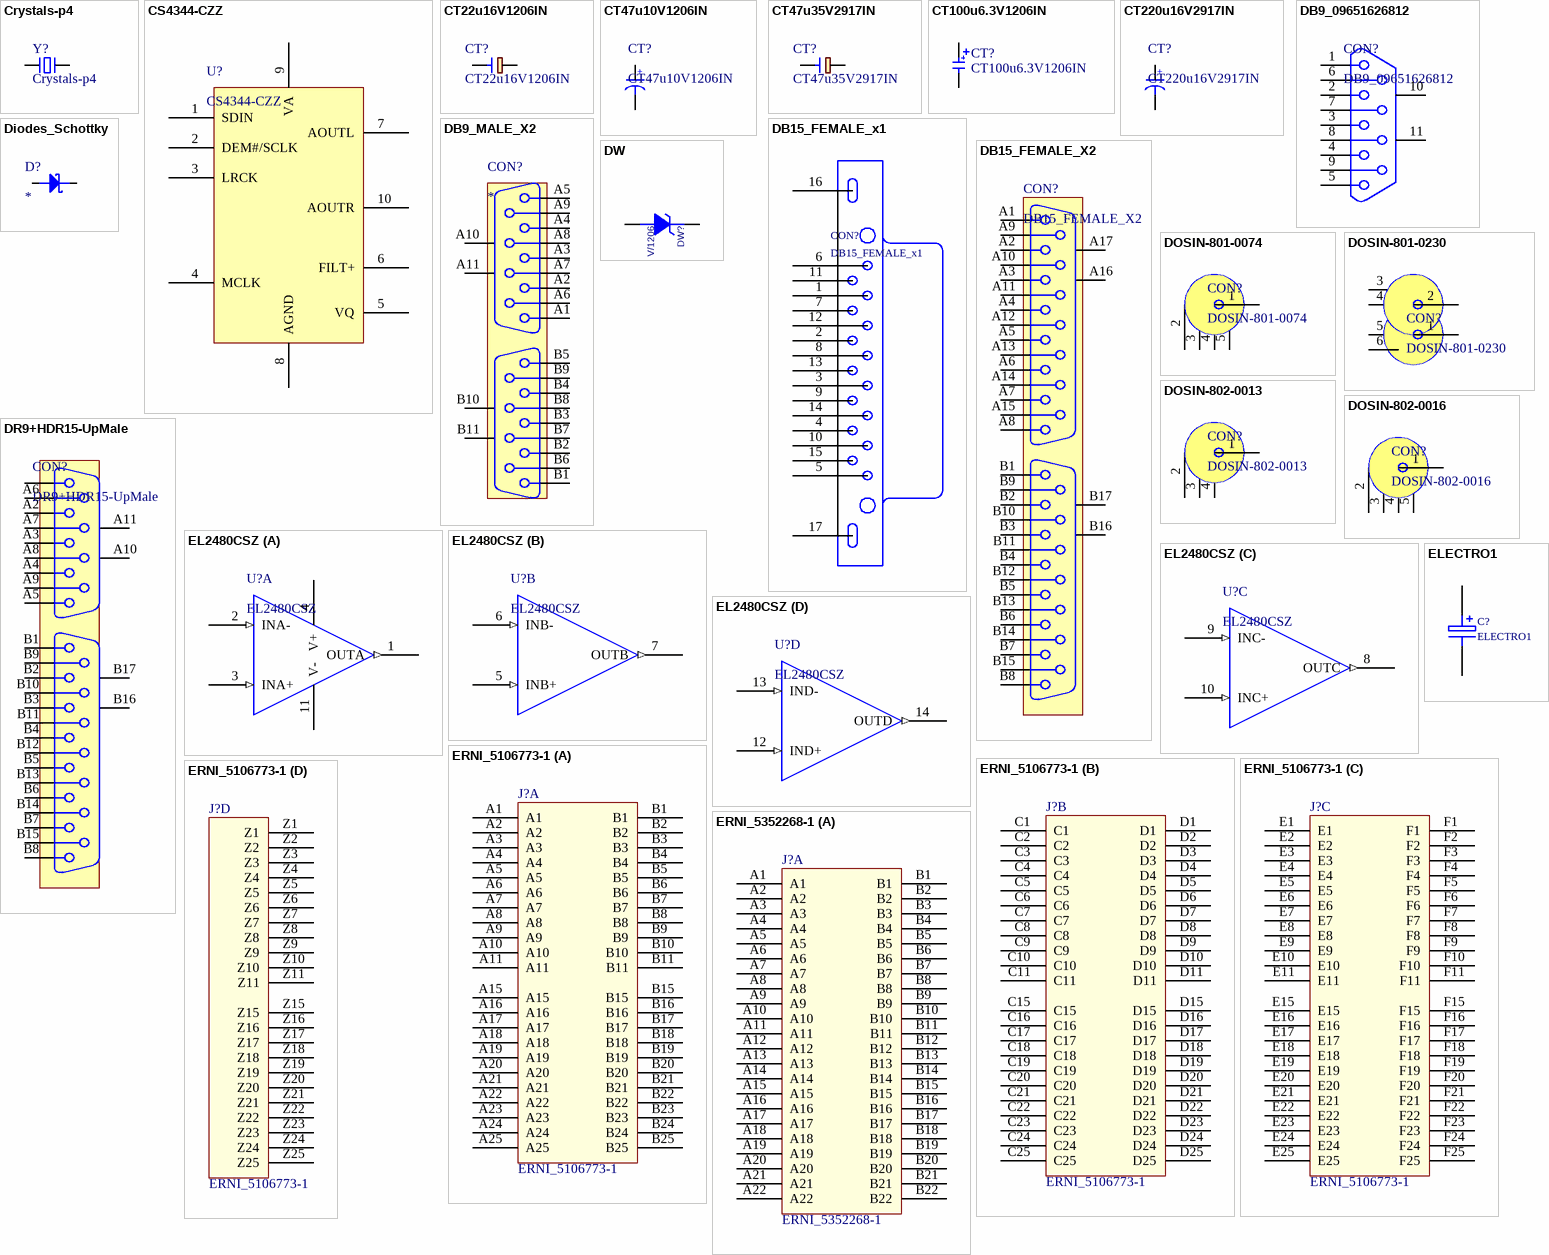
[diagram p4: symbols Crystals-p4 to ERNI_5352268-1]

## Crystals-p4
designator Y?
pins: 1, 2 hidden, 3, 4 hidden

## CS4344-CZZ
designator U?
Manufacturer: Cirrus Logic; Number of Converters: 2; Resolution: 24 bit; Conversion Rate: 192 kS/s; Interface Type: Serial; Number of Channels: 2 Channel; Maximum Power Dissipation: 69 mW; Operating Supply Voltage: 3.3 V, 5 V; Supplier 1: Mouser; Manufacturer Part Number: CS4344-CZZ; RoHS: RoHS Compliant; Category: Audio D/A Converter ICs; Stock 1: 1225; Pricing 1: 1=3.87, 10=3.12, 100=2.84, 250=2.57, 500=2.30, 1000=1.94, 2500=1.84, 5000=1.77 (AUD); Operating Temperature Range: - 10 C to + 70 C; Package / Case: TSSOP-10; Packaging: Tube; Series: CS4344; Brand: Cirrus Logic; Mounting Style: SMD/SMT; Number of DAC Outputs: 2; Product Category: Converters - Digital to Analog (DAC); Standard Pack Qty: 96; Tradename: CS4344; RoHS - Mouser: Y; Minimum Order Quantity: 1; Reeling: False; ComponentLink1URL: http://www.mouser.com/ds/2/76/CS4344-45-46-48_F1-13958.pdf; ComponentLink1Description: http://www.mouser.com/ds/2/76/CS4344-45-46-48_F1-13958.pdf; Supplier Part Number 1: 777-CS4344-CZZ; My_Descript: CS4344-CZZ
footprint TSSOP10
pins: 1 SDIN, 2 DEM#/SCLK, 3 LRCK, 4 MCLK, 5 VQ, 6 FILT+, 7 AOUTL, 8 AGND, 9 VA, 10 AOUTR

## CT22u16V1206IN
designator CT?
Tantalum Capacitors - Solid SMD 22uF 16V 20%; Manufacturer: AVX; Manufacturer Part Number: F931C226MAA; Mfr Case Code: A Case; Tolerance: 10 %; ESR: 3 Ohms; Case Length: 3.2 mm; Case Width: 1.6 mm; Supplier 1: Mouser; RoHS: RoHS Compliant; Category: Tantalum Capacitors - Solid SMD; Stock 1: 0; Pricing 1: 1=1.09, 25=0.972, 100=0.525, 250=0.435, 500=0.396, 1000=0.363, 2000=0.242, 4000=0.232, 10000=0.203 (AUD); Capacitance: 22 uF; Height: 1.6 mm; Operating Temperature Range: - 55 C to + 125 C; Package / Case: 1206 (3216 metric); Packaging: Reel; Product: Tantalum Solid Standard Grade - Other Various; Series: F93; Termination Style: SMD/SMT; Voltage Rating: 16 V; Brand: AVX; Case Code - in: 1206; Case Code - mm: 3216; Product Category: SMD Tantalum Capacitors; Standard Pack Qty: 2000; RoHS - Mouser: Y; Minimum Order Quantity: 1; Reeling: True; ComponentLink1URL: http://www.mouser.com/ds/2/40/f93-221107.pdf; ComponentLink1Description: http://www.mouser.com/ds/2/40/f93-221107.pdf; Supplier Part Number 1: 647-F931C226MAA; My_Descript: CT22u16V1206IN
footprint CT1206(3216 metric) (D1206)
pins: 1, 2

## CT47u10V1206IN
designator CT?
Tantalum Capacitors - Solid SMD 10volts 47uF 20% ESR=1500; Manufacturer: AVX; Manufacturer Part Number: TLJG476M010R1500; Mfr Case Code: G Case; Voltage Rating: 10 V; ESR: 1500 mOhms; Leakage Current: 4.7 uA; Case Length: 3.2 mm; Case Width: 1.6 mm; Ripple Current: 216 mA; Supplier 1: Mouser; RoHS: RoHS Compliant; Category: Tantalum Capacitors - Solid SMD; Stock 1: 0; Pricing 1: 1200=1.55, 2500=1.40, 5000=0.972, 7500=0.945, 10000=0.932 (AUD); Capacitance: 47 uF; Height: 1.5 mm; Operating Temperature Range: - 55 C to + 125 C; Package / Case: 1206 (3216 metric); Packaging: Reel; Product: Tantalum Solid Standard Grade - Other Various; Series: TLJ; Termination Style: SMD/SMT; Tolerance: 20 %; Brand: AVX; Case Code - in: 1206; Case Code - mm: 3216; Product Category: SMD High CV Tantalum Capacitors; Standard Pack Qty: 2500; RoHS - Mouser: Y; Minimum Order Quantity: 1200; Reeling: True; ComponentLink1URL: http://www.mouser.com/ds/2/40/tlj-35067.pdf; ComponentLink1Description: http://www.mouser.com/ds/2/40/tlj-35067.pdf; Supplier Part Number 1: 581-TLJG476M010R1500; My_Descript: CT47u10V1206IN
footprint CT1206(3216 metric) (D1206)
pins: 1, 2
text: +

## CT47u35V2917IN
designator CT?
Tantalum Capacitors - Solid SMD 35volts 47uF 20% ESR=200mOhms; Manufacturer: Kemet; Manufacturer Part Number: T495X476M035ATE200; Mfr Case Code: X Case; Voltage Rating: 35 V; Case Length: 7.3 mm; Case Width: 4.3 mm; Product Status: New at Mouser; Supplier 1: Mouser; RoHS: RoHS Compliant; Category: Tantalum Capacitors - Solid SMD; Stock 1: 2233; Pricing 1: 1=3.96, 10=3.04, 100=2.27, 500=1.54, 1000=1.35, 2500=1.26, 10000=1.21 (AUD); Capacitance: 47 uF; Height: 4.3 mm; Operating Temperature Range: - 55 C to + 125 C; Package / Case: 2917 (7343 metric); Packaging: Reel; Product: Tantalum Solid Low ESR Industrial Grade; Series: T495; Termination Style: SMD/SMT; Tolerance: 20 %; Brand: Kemet; ESR: 200 mOhms; Case Code - in: 2917; Case Code - mm: 7343; Product Category: SMD Low ESR Tantalum Chip Capacitors; Standard Pack Qty: 500; RoHS - Mouser: Y; Minimum Order Quantity: 1; Reeling: True; ComponentLink1URL: http://www.kemet.com/kemet/web/homepage/kechome.nsf/vapubfiles/KEM_T2009_T495.pdf/$file/KEM_T2009_T495.pdf; ComponentLink1Description: http://www.kemet.com/kemet/web/homepage/kechome.nsf/vapubfiles/KEM_T2009_T495.pdf/$file/KEM_T2009_T495.pdf; Supplier Part Number 1: 80-T495X476M35ATE200; My_Descript: CT47u35V2917IN
footprint CT7343-31
pins: 1, 2

## CT100u6.3V1206IN
designator CT?
Tantalum Capacitors - Solid SMD 100UF 6.3V 10%; Manufacturer: AVX; Mfr Case Code: A Case; Manufacturer Part Number: F930J107KAA; Dissipation Factor DF: 35; Case Width: 1.6 mm; ESR: 2 Ohms; Leakage Current: 6.3 uA; Case Length: 3.2 mm; Value: 100uF; Supplier 1: Mouser; Supplier Part Number 1: 647-F930J107KAA; Reeling: True; Case Code - mm: 3216; Case Code - in: 1206; Series: F93; Minimum Order Quantity: 1; RoHS - Mouser: Y; Standard Pack Qty: 2000; RoHS: RoHS Compliant; Operating Temperature Range: - 55 C to + 125 C; Product: Tantalum Solid Standard Grade - Other Various; Brand: AVX; Packaging: Reel; Package / Case: 1206 (3216 metric); Product Category: SMD Tantalum Capacitors; Termination Style: SMD/SMT; Voltage Rating: 6.3 V; Tolerance: 10 %; Category: Tantalum Capacitors - Solid SMD; Height: 1.6 mm; Capacitance: 100 uF; My_Descript: CT100u6.3V1206IN
footprint CT1206(3216 metric) (D1206)
pins: 1, 2

## CT220u16V2917IN
designator CT?
CAP TANT 220UF 16V 20% 2917; Manufacturer: AVX Corporation; Manufacturer Part Number: TPSE227M016R0100; Manufacturer Size Code: E; Capacitance: 220μF; ESR (Equivalent Series Resistance): 100 mOhm; Supplier 1: Digi-Key; RoHS: RoHS Compliant; Category: Capacitors; Stock 1: 902; Pricing 1: 1=5.83, 10=5.481, 100=4.862 (USD); Packaging: Digi-Reel?; Voltage - Rated: 16V; Tolerance: ±20%; Type: Molded; Operating Temperature: -55°C ~ 125°C; Mounting Type: Surface Mount; Package / Case: 2917 (7343 Metric); Size / Dimension: 0.287" L x 0.169" W (7.30mm x 4.30mm); Height - Seated (Max): 0.169" (4.30mm); Lead Spacing: -; Features: General Purpose; Lifetime @ Temp.: -; ComponentLink1URL: http://www.avx.com/docs/Catalogs/tps.pdf; ComponentLink1Description: http://www.avx.com/docs/Catalogs/tps.pdf; Supplier Part Number 1: 478-4131-6-ND; My_Descript: CT220u16V2917IN
footprint CT7343-31
pins: 1, 2
text: +

## DB9_09651626812
designator CON?
D-Sub Standard Connectors MALE 9P RIGHT ANGLED; Manufacturer: HARTING; Number of Positions: 9; Pitch: 2.54 mm; Supplier 1: Mouser; Manufacturer Part Number: 09651626812; RoHS: RoHS Compliant; Category: D-Sub Standard Connectors; Stock 1: 971; Pricing 1: 1=5.18, 10=4.75, 25=4.54, 100=4.10, 250=3.67, 500=3.46, 1000=3.13, 2500=2.92, 5000=2.81 (AUD); Gender: Male; Mounting Angle: Right; Number of Rows: 2; Termination Style: Through Hole; Brand: HARTING; Product Category: D-Sub High Density; Standard Pack Qty: 100; RoHS - Mouser: Y; Minimum Order Quantity: 1; Reeling: False; ComponentLink1URL: http://www.harkis.harting.com/cgi-win/hkcgi.exe?crq_npld?&show=09651626812&language=GB; ComponentLink1Description: http://www.harkis.harting.com/cgi-win/hkcgi.exe?crq_npld?&show=09651626812&language=GB; Supplier Part Number 1: 617-09-65-162-6812; My_Descript: DB9_09651626812
footprint DB9_09651626812
pins: 1, 2, 3, 4, 5, 6, 7, 8, 9, 10, 11

## DB9_MALE_X2
designator CON?
My_Descript: DB9_MALE_X2
footprint DB9_MALE_X2
pins: A1 1, A2 2, A3 3, A4 4, A5 5, A6 6, A7 7, A8 8, A9 9, A10 MH1, A11 MH2, B1 1, B2 2, B3 3, B4 4, B5 5, B6 6, B7 7, B8 8, B9 9, B10 MH1, B11 MH2

## DB15_FEMALE_x1
designator CON?
pins: 1, 2, 3, 4, 5, 6, 7, 8, 9, 10, 11, 12, 13, 14, 15, 16, 17

## DB15_FEMALE_X2
designator CON?
pins: A1 1, A2 2, A3 3, A4 4, A5 5, A6 6, A7 7, A8 8, A9 9, A10 10, A11 11, A12 12, A13 13, A14 14, A15 15, A16 MH1, A17 MH2, B1 1, B2 2, B3 3, B4 4, B5 5, B6 6, B7 7, B8 8, B9 9, B10 10, B11 11, B12 12, B13 13, B14 14, B15 15, B16 MH1, B17 MH2

## Diodes_Schottky
designator D?
pins: A, C

## DOSIN-801-0074
designator CON?
My_Descript: DOSIN-801-0074
footprint DOSIN-801-0074
pins: 1 BNC, 2 G, 3 G, 4 G, 5 G

## DOSIN-801-0230
designator CON?
Thin Film Resistors - SMD 1/10W 1.2K ohm 1% 50ppm; Manufacturer: DOSIN; Resistance: 50Ohms; Case Height: 0; Supplier 1: taobao; Manufacturer Part Number: DOSIN-801-0230; RoHS: RoHS Compliant By Exemption; Stock 1: 20645; Pricing 1: 0; Operating Temperature Range: - 55 C to + 125 C; Packaging: Reel; Product: Thin Film Resistors SMD; Series: RT; Brand: DOSIN; Case Length: 0; Case Width: 0; RoHS - Mouser: E; Minimum Order Quantity: 1; Reeling: True; ComponentLink1URL: http://item.taobao.com/item.htm?spm=a1z10.5.w4002-53791321.53.6dXN3j&id=39620178563; ComponentLink1Description: http://item.taobao.com/item.htm?spm=a1z10.5.w4002-53791321.53.6dXN3j&id=39620178563; Supplier Part Number 1: BNC-KWE; My_Descript: DOSIN-801-0230
footprint DOSIN-801-0230
pins: 1 BNC, 2 BNC, 3 G, 4 G, 5 G, 6 G

## DOSIN-802-0013
designator CON?
Thin Film Resistors - SMD 1/10W 1.2K ohm 1% 50ppm; Manufacturer: DOSIN; Resistance: 50Ohms; Case Height: 11mm; Case Length: 27.8mm; Case Width: 9.6mm; Supplier 1: taobao; Manufacturer Part Number: DOSIN-802-0013; RoHS: RoHS Compliant By Exemption; Stock 1: 20645; Pricing 1: 1=0.135, 50=0.077, 100=0.058, 1000=0.046, 5000=0.038, 10000=0.030, 25000=0.024, 100000=0.019 (AUD); Operating Temperature Range: - 55 C to + 125 C; Packaging: Reel; Product: Thin Film Resistors SMD; Series: RT; Brand: DOSIN; RoHS - Mouser: E; Minimum Order Quantity: 1; Reeling: True; ComponentLink1URL: http://item.taobao.com/item.htm?spm=a1z10.3.w4002-2235079511.64.9Vtkga&id=21340007420; ComponentLink1Description: http://item.taobao.com/item.htm?spm=a1z10.3.w4002-2235079511.64.9Vtkga&id=21340007420; Supplier Part Number 1: TNC-KWE; My_Descript: DOSIN-802-0013; taobaolink: http://item.taobao.com/item.htm?spm=a1z10.3.w4002-2235079511.64.9Vtkga&id=21340007420
footprint DOSIN-802-0013 (Footprint not found)
pins: 1 BNC, 2 G, 3 G, 4 G

## DOSIN-802-0016
designator CON?
Thin Film Resistors - SMD 1/10W 1.2K ohm 1% 50ppm; Manufacturer: DOSIN; Resistance: 50Ohms; Case Height: 11mm; Case Length: 27.8mm; Case Width: 9.6mm; Supplier 1: taobao; Manufacturer Part Number: DOSIN-802-0016; RoHS: RoHS Compliant By Exemption; Stock 1: 20645; Pricing 1: 1=0.135, 50=0.077, 100=0.058, 1000=0.046, 5000=0.038, 10000=0.030, 25000=0.024, 100000=0.019 (AUD); Operating Temperature Range: - 55 C to + 125 C; Packaging: Reel; Product: Thin Film Resistors SMD; Series: RT; Brand: DOSIN; RoHS - Mouser: E; Minimum Order Quantity: 1; Reeling: True; ComponentLink1URL: http://item.taobao.com/item.htm?spm=a1z0k.7385961.1997985097.d4918997.XGxCKV&id=35275589231&_u=k7rpb2ac716; ComponentLink1Description: http://item.taobao.com/item.htm?spm=a1z0k.7385961.1997985097.d4918997.XGxCKV&id=35275589231&_u=k7rpb2ac716; Supplier Part Number 1: TNC-KWE; My_Descript: DOSIN-802-0016
footprint DOSIN-802-0016
pins: 1 BNC, 2 G, 3 G, 4 G, 5 G

## DR9+HDR15-UpMale
designator CON?
My_Descript: DR9+HDR15-UpMale
footprint DR9+HDR15-UpMale
pins: A1 1, A2 2, A3 3, A4 4, A5 5, A6 6, A7 7, A8 8, A9 9, A10 MH1, A11 MH2, B1 1, B2 2, B3 3, B4 4, B5 5, B6 6, B7 7, B8 8, B9 9, B10 10, B11 11, B12 12, B13 13, B14 14, B15 15, B16 MH1, B17 MH2

## DW
designator DW?, comment 12V/1206
footprint d1206_tg
pins: A ANODE, C CATHODE

## EL2480CSZ
designator U?
part A pins: 1 OUTA (out), 2 INA- (in), 3 INA+ (in), 4 V+ (power), 11 V- (power)
part B pins: 5 INB+ (in), 6 INB- (in), 7 OUTB (out)
part C pins: 8 OUTC (out), 9 INC- (in), 10 INC+ (in)
part D pins: 12 IND+ (in), 13 IND- (in), 14 OUTD (out)

## ELECTRO1
designator C?
Electrolytic Capacitor
footprint RB.2/.26
pins: 1, 2

## ERNI_5106773-1
designator J?
Manufacturer: TE Connectivity / AMP; Mounting Angle: Vertical; Number of Positions: 110; Pitch: 2 mm; Supplier 1: Mouser; Manufacturer Part Number: 5106773-1; RoHS: RoHS Compliant; Category: Hard Metric Connectors; Stock 1: 20; Pricing 1: 1=20.43, 25=17.81, 100=14.66, 500=14.35, 1000=13.61 (AUD); Contact Plating: Gold; Housing Material: Polyester; Number of Rows: 5; Packaging: Tube; Series: Z-Pack HM; Termination Style: Pin; Brand: TE Connectivity / AMP; Contact Material: Phosphor Bronze; Mounting Style: Through Hole; Product Category: Z-Pack Connectors; Product Type: Receptacles; Standard Pack Qty: 11; Tradename: Z-Pack; RoHS - Mouser: Y; Minimum Order Quantity: 1; Reeling: False; ComponentLink1URL: http://www.te.com/catalog/pn/en/5106773-1?RQPN=5106773-1; ComponentLink1Description: http://www.te.com/catalog/pn/en/5106773-1?RQPN=5106773-1; Supplier Part Number 1: 571-5106773-1; My_Descript: ERNI_5106773-1
footprint SOT23
footprint ERNI_5106773-1 (Footprint not found)
part A pins: A1, A2, A3, A4, A5, A6, A7, A8, A9, A10, A11, A15, A16, A17, A18, A19, A20, A21, A22, A23, A24, A25, B1, B2, B3, B4, B5, B6, B7, B8, B9, B10, B11, B15, B16, B17, B18, B19, B20, B21, B22, B23, B24, B25
part B pins: C1, C2, C3, C4, C5, C6, C7, C8, C9, C10, C11, C15, C16, C17, C18, C19, C20, C21, C22, C23, C24, C25, D1, D2, D3, D4, D5, D6, D7, D8, D9, D10, D11, D15, D16, D17, D18, D19, D20, D21, D22, D23, D24, D25
part C pins: E1, E2, E3, E4, E5, E6, E7, E8, E9, E10, E11, E15, E16, E17, E18, E19, E20, E21, E22, E23, E24, E25, F1, F2, F3, F4, F5, F6, F7, F8, F9, F10, F11, F15, F16, F17, F18, F19, F20, F21, F22, F23, F24, F25
part D pins: Z1, Z2, Z3, Z4, Z5, Z6, Z7, Z8, Z9, Z10, Z11, Z15, Z16, Z17, Z18, Z19, Z20, Z21, Z22, Z23, Z24, Z25

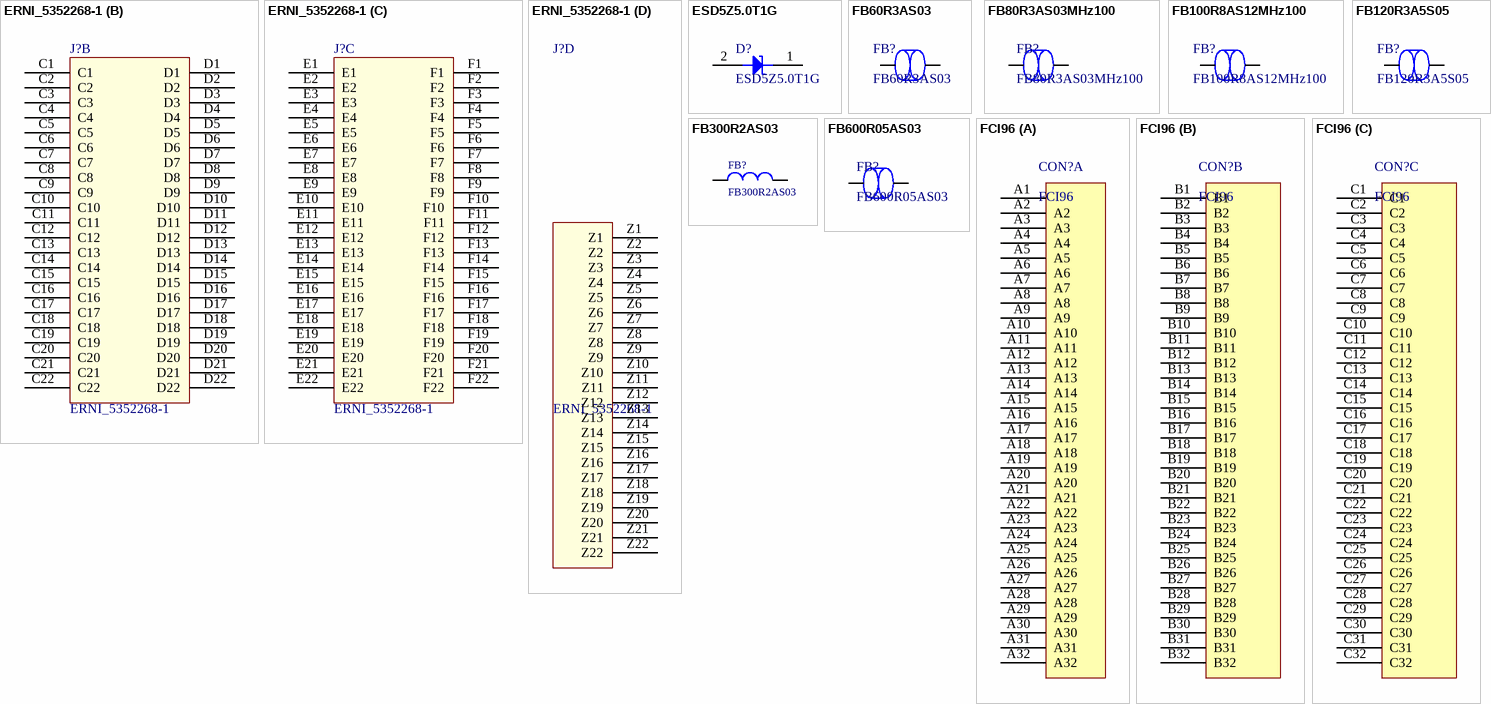
[diagram p5: symbols ERNI_5352268-1 to FCI96]

## ERNI_5352268-1
designator J?
Manufacturer: TE Connectivity / AMP; Mounting Angle: Vertical; Number of Positions: 110; Pitch: 2 mm; Number of Columns: 22; Supplier 1: Mouser; Manufacturer Part Number: 5352268-1; Category: Hard Metric Connectors; Stock 1: 102; Pricing 1: 1=19.68, 25=17.56, 50=16.13, 100=14.90 (AUD); Contact Plating: Gold; Housing Material: Polyester; Number of Rows: 5; Packaging: Tube; Series: Z-Pack HM; Termination Style: Pin; Type: B; Brand: TE Connectivity / AMP; Contact Material: Phosphor Bronze; Flammability Rating: UL 94 V-0; Mounting Style: Through Hole; Product Type: Receptacles; Standard Pack Qty: 60; Tradename: Z-Pack; Minimum Order Quantity: 1; Reeling: False; ComponentLink1URL: http://www.te.com/catalog/pn/en/5352268-1?RQPN=5352268-1; ComponentLink1Description: http://www.te.com/catalog/pn/en/5352268-1?RQPN=5352268-1; Supplier Part Number 1: 571-5352268-1; My_Descript: ERNI_5352268-1
footprint SOT23
footprint ERNI_5352268-1
part A pins: A1, A2, A3, A4, A5, A6, A7, A8, A9, A10, A11, A12, A13, A14, A15, A16, A17, A18, A19, A20, A21, A22, B1, B2, B3, B4, B5, B6, B7, B8, B9, B10, B11, B12, B13, B14, B15, B16, B17, B18, B19, B20, B21, B22
part B pins: C1, C2, C3, C4, C5, C6, C7, C8, C9, C10, C11, C12, C13, C14, C15, C16, C17, C18, C19, C20, C21, C22, D1, D2, D3, D4, D5, D6, D7, D8, D9, D10, D11, D12, D13, D14, D15, D16, D17, D18, D19, D20, D21, D22
part C pins: E1, E2, E3, E4, E5, E6, E7, E8, E9, E10, E11, E12, E13, E14, E15, E16, E17, E18, E19, E20, E21, E22, F1, F2, F3, F4, F5, F6, F7, F8, F9, F10, F11, F12, F13, F14, F15, F16, F17, F18, F19, F20, F21, F22
part D pins: Z1, Z2, Z3, Z4, Z5, Z6, Z7, Z8, Z9, Z10, Z11, Z12, Z13, Z14, Z15, Z16, Z17, Z18, Z19, Z20, Z21, Z22